# Altium schematic symbol library ECUCheater_New.SchLib: 1 symbol
Pins are listed as number, name and electrical type; pins without a type are passive.

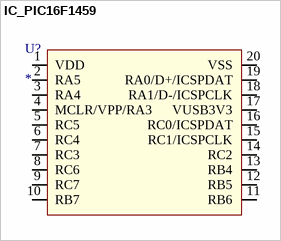
[diagram p0: symbol IC_PIC16F1459]

## IC_PIC16F1459
designator U?
pins: 1 VDD, 2 RA5, 3 RA4, 4 MCLR/VPP/RA3, 5 RC5, 6 RC4, 7 RC3, 8 RC6, 9 RC7, 10 RB7, 11 RB6, 12 RB5, 13 RB4, 14 RC2, 15 RC1/ICSPCLK, 16 RC0/ICSPDAT, 17 VUSB3V3, 18 RA1/D-/ICSPCLK, 19 RA0/D+/ICSPDAT, 20 VSS